# EAGLE library part MCP73837-FCI_UN (library MCP73837)
Li-Ion Charger USB/DC 4.2V 1A PG MSOP10 Source: Datasheet <http://ww1.microchip.com/downloads/en/DeviceDoc/22071B.pdf>
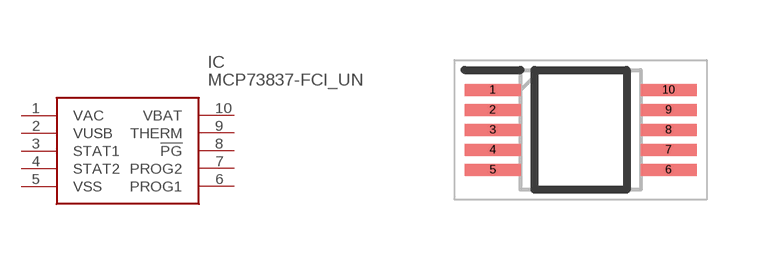
[diagram p0: symbol with the pads of SOP50P490X110-10N; footprint SOP50P490X110-10N]

Designator prefix IC

## MCP73837-FCI_UN (Arrow_Part_Number: MCP73837-FCI/UN; Arrow_Price-Stock: https://www.arrow.com/en/products/mcp73837-fciun/microchip-technology; Description: Li-Ion Charger USB/DC 4.2V 1A PG MSOP10; Height: 1.1mm; Manufacturer_Name: Microchip; Manufacturer_Part_Number: MCP73837-FCI/UN; Mouser_Part_Number: 579-MCP73837-FCI/UN; Mouser_Price-Stock: https://www.mouser.co.uk/ProductDetail/Microchip-Technology/MCP73837-FCI-UN?qs=hH%252BOa0VZEiDKGj395FRsiw%3D%3D)  [SOP50P490X110-10N]
1  VAC
2  VUSB
3  STAT1
4  STAT2
5  VSS  pwr
6  PROG1
7  PROG2
8  !PG
9  THERM
10  VBAT

## Footprint SOP50P490X110-10N (pad centres in mm)
UN(MSOP)
smd 1.4 x 0.3: 1 -2.2,1; 2 -2.2,0.5; 3 -2.2,0; 4 -2.2,-0.5; 5 -2.2,-1; 6 2.2,-1; 7 2.2,-0.5; 8 2.2,0; 9 2.2,0.5; 10 2.2,1